# Altium schematic symbol library AVR-ISP-6Pin.SchLib: 1 symbol
Pins are listed as number, name and electrical type; pins without a type are passive.

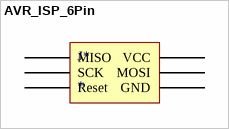
[diagram p0: symbol AVR_ISP_6Pin]

## AVR_ISP_6Pin
designator J*
footprint HDRV6W64P254_2X3_762X508X900B (Header 2x3)
pins: 1 MISO, 2 SCK, 3 Reset, 4 VCC, 5 MOSI, 6 GND